# Altium footprint library 5142.48-А_SHIELD_LFCSP-32.PcbLib: 1 footprints
Each footprint in its own frame and in the unit in brackets; x right, y up, seen from the top. Pads: shape width x height; smd on the part's side, far side on the other; paste and mask are expansions set on the pad; w line width, h text height; cw(c..) or ccw(c..) is an arc to the next point about the centre after c.
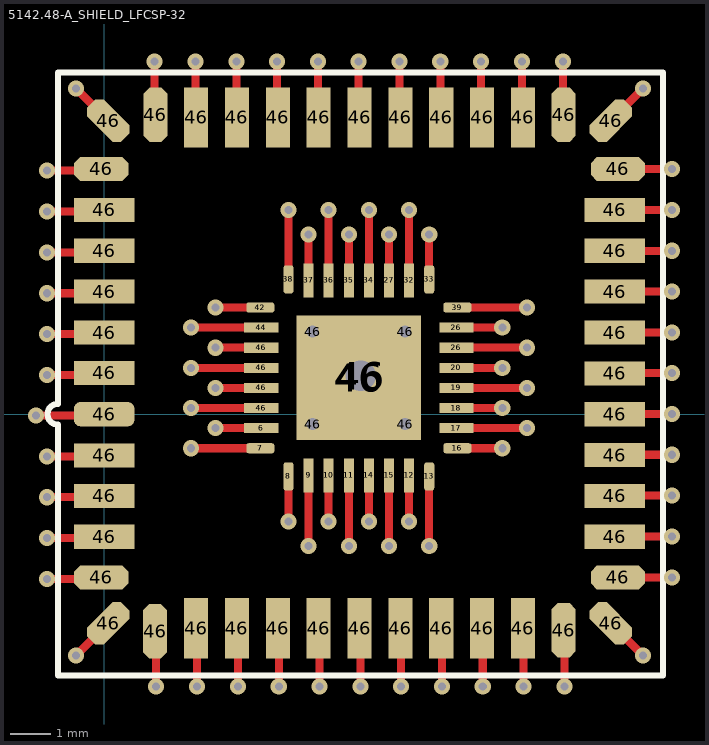
[diagram p0: the footprint, top view; thin cyan lines are the x and y axes]

## 5142.48-А_SHIELD_LFCSP-32 [mm]
pads (119):
  rect 0.85x0.25 smd mask+0.05: 6(3.908,-0.347) 17(8.758,-0.347) 18(8.758,0.153) 19(8.758,0.653) 20(8.758,1.153) 26(8.758,1.653) 26(8.758,2.153) 44(3.908,2.153) 46(3.908,0.153) 46(3.908,0.653) 46(3.908,1.153) 46(3.908,1.653)
  rect 0.85x0.25 on Mid1 mask+0.05: 6(3.908,-0.347) 17(8.758,-0.347) 18(8.758,0.153) 19(8.758,0.653) 20(8.758,1.153) 26(8.758,1.653) 26(8.758,2.153) 44(3.908,2.153) 46(3.908,0.153) 46(3.908,0.653) 46(3.908,1.153) 46(3.908,1.653)
  rrect50% 0.7x0.25 smd mask+0.05: 7(3.883,-0.847) 16(8.783,-0.847) 39(8.783,2.653) 42(3.883,2.653)
  rrect50% 0.7x0.25 on Mid1 mask+0.05: 7(3.883,-0.847) 16(8.783,-0.847) 39(8.783,2.653) 42(3.883,2.653)
  rrect50% 0.25x0.7 smd mask+0.05: 8(4.583,-1.547) 13(8.083,-1.547) 33(8.083,3.353) 38(4.583,3.353)
  rrect50% 0.25x0.7 on Mid1 mask+0.05: 8(4.583,-1.547) 13(8.083,-1.547) 33(8.083,3.353) 38(4.583,3.353)
  rect 0.25x0.85 smd mask+0.05: 9(5.083,-1.522) 10(5.583,-1.522) 11(6.083,-1.522) 12(7.583,-1.522) 14(6.583,-1.522) 15(7.083,-1.522) 27(7.083,3.328) 32(7.583,3.328) 34(6.583,3.328) 35(6.083,3.328) 36(5.583,3.328) 37(5.083,3.328)
  rect 0.25x0.85 on Mid1 mask+0.05: 9(5.083,-1.522) 10(5.583,-1.522) 11(6.083,-1.522) 12(7.583,-1.522) 14(6.583,-1.522) 15(7.083,-1.522) 27(7.083,3.328) 32(7.583,3.328) 34(6.583,3.328) 35(6.083,3.328) 36(5.583,3.328) 37(5.083,3.328)
  oct 1.35x0.6 smd: 46(-0.075,-4.06) 46(-0.075,6.1) 46(12.775,-4.06) 46(12.775,6.1)
  rect 1.5x0.6 smd: 46(0,-3.048) 46(0,-2.032) 46(0,-1.025) 46(0,1.025) 46(0,2.032) 46(0,3.048) 46(0,4.064) 46(0,5.08) 46(12.7,-3.048) 46(12.7,-2.032) 46(12.7,-1.016) 46(12.7,0) 46(12.7,1.016) 46(12.7,2.032) 46(12.7,3.048) 46(12.7,4.064) 46(12.7,5.08)
  rrect50% 1.5x0.6 smd: 46(0,0)
  oct 0.6x1.2 smd rot 135: 46(0.1,-5.2) 46(12.6,7.3)
  oct 0.6x1.2 smd rot 45: 46(0.1,7.3) 46(12.6,-5.2)
  oct 0.6x1.35 smd: 46(1.265,-5.4) 46(1.275,7.45) 46(11.425,-5.375) 46(11.425,7.45)
  rect 0.6x1.5 smd: 46(2.286,-5.32) 46(2.286,7.38) 46(3.302,-5.32) 46(3.302,7.38) 46(4.318,-5.32) 46(4.318,7.38) 46(5.334,-5.32) 46(5.334,7.38) 46(6.35,-5.32) 46(6.35,7.38) 46(7.366,-5.32) 46(7.366,7.38) 46(8.382,-5.32) 46(8.382,7.38) 46(9.398,-5.32) 46(9.398,7.38) 46(10.414,-5.32) 46(10.414,7.38)
  round 0.5 hole 0.3: 46(5.183,-0.247) 46(5.183,2.053) 46(7.483,-0.247) 46(7.483,2.053)
  rect 3.1x3.1 smd mask+0.05: 46(6.333,0.903)
  rect 3.1x3.1 on Mid1 mask+0.05: 46(6.333,0.903)
  round 1.524 hole 0.762: 46(6.383,0.953)
via -1.425,1.992 diameter 0.4 hole 0.2
via -1.7,-0.032 diameter 0.4 hole 0.2
via 13.4,-6 diameter 0.4 hole 0.2
via -0.7,-6 diameter 0.4 hole 0.2
via -0.7,8.1 diameter 0.4 hole 0.2
via 13.4,8.1 diameter 0.4 hole 0.2
via 6.326,8.775 diameter 0.4 hole 0.2
via 7.342,8.775 diameter 0.4 hole 0.2
via 8.358,8.775 diameter 0.4 hole 0.2
via 9.374,8.775 diameter 0.4 hole 0.2
via 10.39,8.775 diameter 0.4 hole 0.2
via 11.41,8.775 diameter 0.4 hole 0.2
via 5.318,8.775 diameter 0.4 hole 0.2
via 4.302,8.775 diameter 0.4 hole 0.2
via 3.286,8.775 diameter 0.4 hole 0.2
via 2.27,8.775 diameter 0.4 hole 0.2
via 1.25,8.775 diameter 0.4 hole 0.2
via 6.374,-6.775 diameter 0.4 hole 0.2
via 5.358,-6.775 diameter 0.4 hole 0.2
via 4.342,-6.775 diameter 0.4 hole 0.2
via 3.326,-6.775 diameter 0.4 hole 0.2
via 2.31,-6.775 diameter 0.4 hole 0.2
via 1.29,-6.775 diameter 0.4 hole 0.2
via 7.382,-6.775 diameter 0.4 hole 0.2
via 8.398,-6.775 diameter 0.4 hole 0.2
via 9.414,-6.775 diameter 0.4 hole 0.2
via 10.43,-6.775 diameter 0.4 hole 0.2
via 11.45,-6.775 diameter 0.4 hole 0.2
via -1.425,0.976 diameter 0.4 hole 0.2
via -1.425,3.008 diameter 0.4 hole 0.2
via -1.425,4.024 diameter 0.4 hole 0.2
via -1.425,5.04 diameter 0.4 hole 0.2
via -1.425,6.06 diameter 0.4 hole 0.2
via -1.425,-1.048 diameter 0.4 hole 0.2
via -1.425,-2.064 diameter 0.4 hole 0.2
via -1.425,-3.08 diameter 0.4 hole 0.2
via -1.425,-4.1 diameter 0.4 hole 0.2
via 14.125,1.024 diameter 0.4 hole 0.2
via 14.125,0.008 diameter 0.4 hole 0.2
via 14.125,-1.008 diameter 0.4 hole 0.2
via 14.125,-2.024 diameter 0.4 hole 0.2
via 14.125,-3.04 diameter 0.4 hole 0.2
via 14.125,-4.06 diameter 0.4 hole 0.2
via 14.125,2.032 diameter 0.4 hole 0.2
via 14.125,3.048 diameter 0.4 hole 0.2
via 14.125,4.064 diameter 0.4 hole 0.2
via 14.125,5.08 diameter 0.4 hole 0.2
via 14.125,6.1 diameter 0.4 hole 0.2
via 7.583,-2.663 diameter 0.4 hole 0.2
via 6.583,-2.663 diameter 0.4 hole 0.2
via 5.583,-2.663 diameter 0.4 hole 0.2
via 4.583,-2.663 diameter 0.4 hole 0.2
via 8.083,-3.273 diameter 0.4 hole 0.2
via 7.083,-3.273 diameter 0.4 hole 0.2
via 6.083,-3.273 diameter 0.4 hole 0.2
via 5.083,-3.273 diameter 0.4 hole 0.2
via 2.766,-0.347 diameter 0.4 hole 0.2
via 2.766,0.653 diameter 0.4 hole 0.2
via 2.766,1.653 diameter 0.4 hole 0.2
via 2.766,2.653 diameter 0.4 hole 0.2
via 2.157,-0.847 diameter 0.4 hole 0.2
via 2.157,0.153 diameter 0.4 hole 0.2
via 2.157,1.153 diameter 0.4 hole 0.2
via 2.157,2.153 diameter 0.4 hole 0.2
via 5.083,4.47 diameter 0.4 hole 0.2
via 6.083,4.47 diameter 0.4 hole 0.2
via 7.083,4.47 diameter 0.4 hole 0.2
via 8.083,4.47 diameter 0.4 hole 0.2
via 4.583,5.08 diameter 0.4 hole 0.2
via 5.583,5.08 diameter 0.4 hole 0.2
via 6.583,5.08 diameter 0.4 hole 0.2
via 7.583,5.08 diameter 0.4 hole 0.2
via 9.9,2.153 diameter 0.4 hole 0.2
via 9.9,1.153 diameter 0.4 hole 0.2
via 9.9,0.153 diameter 0.4 hole 0.2
via 9.9,-0.847 diameter 0.4 hole 0.2
via 10.51,2.653 diameter 0.4 hole 0.2
via 10.51,1.653 diameter 0.4 hole 0.2
via 10.51,0.653 diameter 0.4 hole 0.2
via 10.51,-0.347 diameter 0.4 hole 0.2
Top Layer:
  lines w0.2: -1.7,-0.032 0,-0.032 ; -1.425,-4.1 0,-4.1 ; -1.425,-3.08 0,-3.08 ; -1.425,-2.064 0,-2.064 ; -1.425,-1.048 0,-1.048 ; -1.425,0.976 0,0.976 ; -1.425,1.992 0,1.992 ; -1.425,3.008 0,3.008 ; -1.425,4.024 0,4.024 ; -1.425,5.04 0,5.04 ; -1.425,6.06 0,6.06 ; -0.7,-6 0.1,-5.2 ; -0.7,8.1 0.1,7.3 ; 1.25,7.35 1.25,8.775 ; 1.29,-6.775 1.29,-5.35 ; 2.157,-0.847 3.153,-0.847 3.471,-0.847 3.883,-0.847 ; 2.157,0.153 3.908,0.153 ; 2.157,1.153 3.908,1.153 ; 2.157,2.153 3.908,2.153 ; 2.27,7.35 2.27,8.775 ; 2.31,-6.775 2.31,-5.35 ; 2.766,-0.347 3.908,-0.347 ; 2.766,0.653 3.908,0.653 ; 2.766,1.653 3.908,1.653 ; 2.766,2.653 3.471,2.653 3.883,2.653 ; 3.286,7.35 3.286,8.775 ; 3.326,-6.775 3.326,-5.35 ; 4.302,7.35 4.302,8.775 ; 4.342,-6.775 4.342,-5.35 ; 4.583,-2.663 4.583,-1.958 4.583,-1.547 ; 4.583,3.353 4.583,3.765 4.583,4.083 4.583,5.08 ; 5.083,-3.273 5.083,-1.522 ; 5.083,3.328 5.083,4.47 ; 5.318,7.35 5.318,8.775 ; 5.358,-6.775 5.358,-5.35 ; 5.583,-2.663 5.583,-1.522 ; 5.583,3.328 5.583,5.08 ; 6.083,-3.273 6.083,-1.522 ; 6.083,3.328 6.083,4.47 ; 6.326,7.35 6.326,8.775 ; 6.374,-6.775 6.374,-5.35 ; 6.583,-2.663 6.583,-1.522 ; 6.583,3.328 6.583,5.08 ; 7.083,-3.273 7.083,-1.522 ; 7.083,3.328 7.083,4.47 ; 7.342,7.35 7.342,8.775 ; 7.382,-6.775 7.382,-5.35 ; 7.583,-2.663 7.583,-1.522 ; 7.583,3.328 7.583,5.08 ; 8.083,-3.273 8.083,-2.276 8.083,-1.958 8.083,-1.547 ; 8.083,3.353 8.083,3.765 8.083,4.47 ; 8.358,7.35 8.358,8.775 ; 8.398,-6.775 8.398,-5.35 ; 8.758,-0.347 10.51,-0.347 ; 8.758,0.153 9.9,0.153 ; 8.758,0.653 10.51,0.653 ; 8.758,1.153 9.9,1.153 ; 8.758,1.653 10.51,1.653 ; 8.758,2.153 9.9,2.153 ; 8.783,-0.847 9.195,-0.847 9.9,-0.847 ; 8.783,2.653 9.195,2.653 9.513,2.653 10.51,2.653 ; 9.374,7.35 9.374,8.775 ; 9.414,-6.775 9.414,-5.35 ; 10.39,7.35 10.39,8.775 ; 10.43,-6.775 10.43,-5.35 ; 11.41,7.35 11.41,8.775 ; 11.45,-6.775 11.45,-5.35 ; 12.6,-5.2 13.4,-6 ; 12.7,-4.06 14.125,-4.06 ; 12.7,-3.04 14.125,-3.04 ; 12.7,-2.024 14.125,-2.024 ; 12.7,-1.008 14.125,-1.008 ; 12.7,0.008 14.125,0.008 ; 12.7,1.024 14.125,1.024 ; 12.7,2.032 14.125,2.032 ; 12.7,3.048 14.125,3.048 ; 12.7,4.064 14.125,4.064 ; 12.7,5.08 14.125,5.08 ; 12.7,6.1 14.125,6.1 ; 12.7,7.35 12.7,7.4 ; 13.4,8.1 12.6,7.3 ; 12.6,7.3 12.6,7.3
Mid-Layer 1:
  lines w0.2: 2.157,-0.847 3.153,-0.847 3.471,-0.847 3.883,-0.847 ; 2.157,0.153 3.908,0.153 ; 2.157,1.153 3.908,1.153 ; 2.157,2.153 3.908,2.153 ; 2.766,-0.347 3.908,-0.347 ; 2.766,0.653 3.908,0.653 ; 2.766,1.653 3.908,1.653 ; 2.766,2.653 3.471,2.653 3.883,2.653 ; 4.583,-2.663 4.583,-1.958 4.583,-1.547 ; 4.583,3.353 4.583,3.765 4.583,4.083 4.583,5.08 ; 5.083,-3.273 5.083,-1.522 ; 5.083,3.328 5.083,4.47 ; 5.583,-2.663 5.583,-1.522 ; 5.583,3.328 5.583,5.08 ; 6.083,-3.273 6.083,-1.522 ; 6.083,3.328 6.083,4.47 ; 6.583,-2.663 6.583,-1.522 ; 6.583,3.328 6.583,5.08 ; 7.083,-3.273 7.083,-1.522 ; 7.083,3.328 7.083,4.47 ; 7.583,-2.663 7.583,-1.522 ; 7.583,3.328 7.583,5.08 ; 8.083,-3.273 8.083,-2.276 8.083,-1.958 8.083,-1.547 ; 8.083,3.353 8.083,3.765 8.083,4.47 ; 8.758,-0.347 10.51,-0.347 ; 8.758,0.153 9.9,0.153 ; 8.758,0.653 10.51,0.653 ; 8.758,1.153 9.9,1.153 ; 8.758,1.653 10.51,1.653 ; 8.758,2.153 9.9,2.153 ; 8.783,-0.847 9.195,-0.847 9.9,-0.847 ; 8.783,2.653 9.195,2.653 9.513,2.653 10.51,2.653
Top Overlay:
  lines w0.15: -1.15,-0.26 cw(c-1.15,0) -1.15,0.259
  lines w0.152: -1.15,-0.26 -1.15,-6.5 13.9,-6.5 13.9,8.5 -1.15,8.5 -1.15,0.259
3D body "korpus_5142.48-a.stp": height 2.12, standoff 0, extent 0,-5.35 12.7,7.35